# Altium schematic symbol library ConvertisseurDeNiveau.SchLib: 1 symbol
Pins are listed as number, name and electrical type; pins without a type are passive.

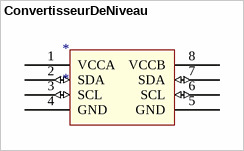
[diagram p0: symbol ConvertisseurDeNiveau]

## ConvertisseurDeNiveau
designator *
footprint ConvertisseurDeNiveau
pins: 1 VCCA (power), 2 SDA (io), 3 SCL (io), 4 GND (power), 5 GND (power), 6 SCL (io), 7 SDA (io), 8 VCCB (power)